# Altium schematic symbol library Schlib1.SchLib: 27 symbols
Pins are listed as number, name and electrical type; pins without a type are passive.

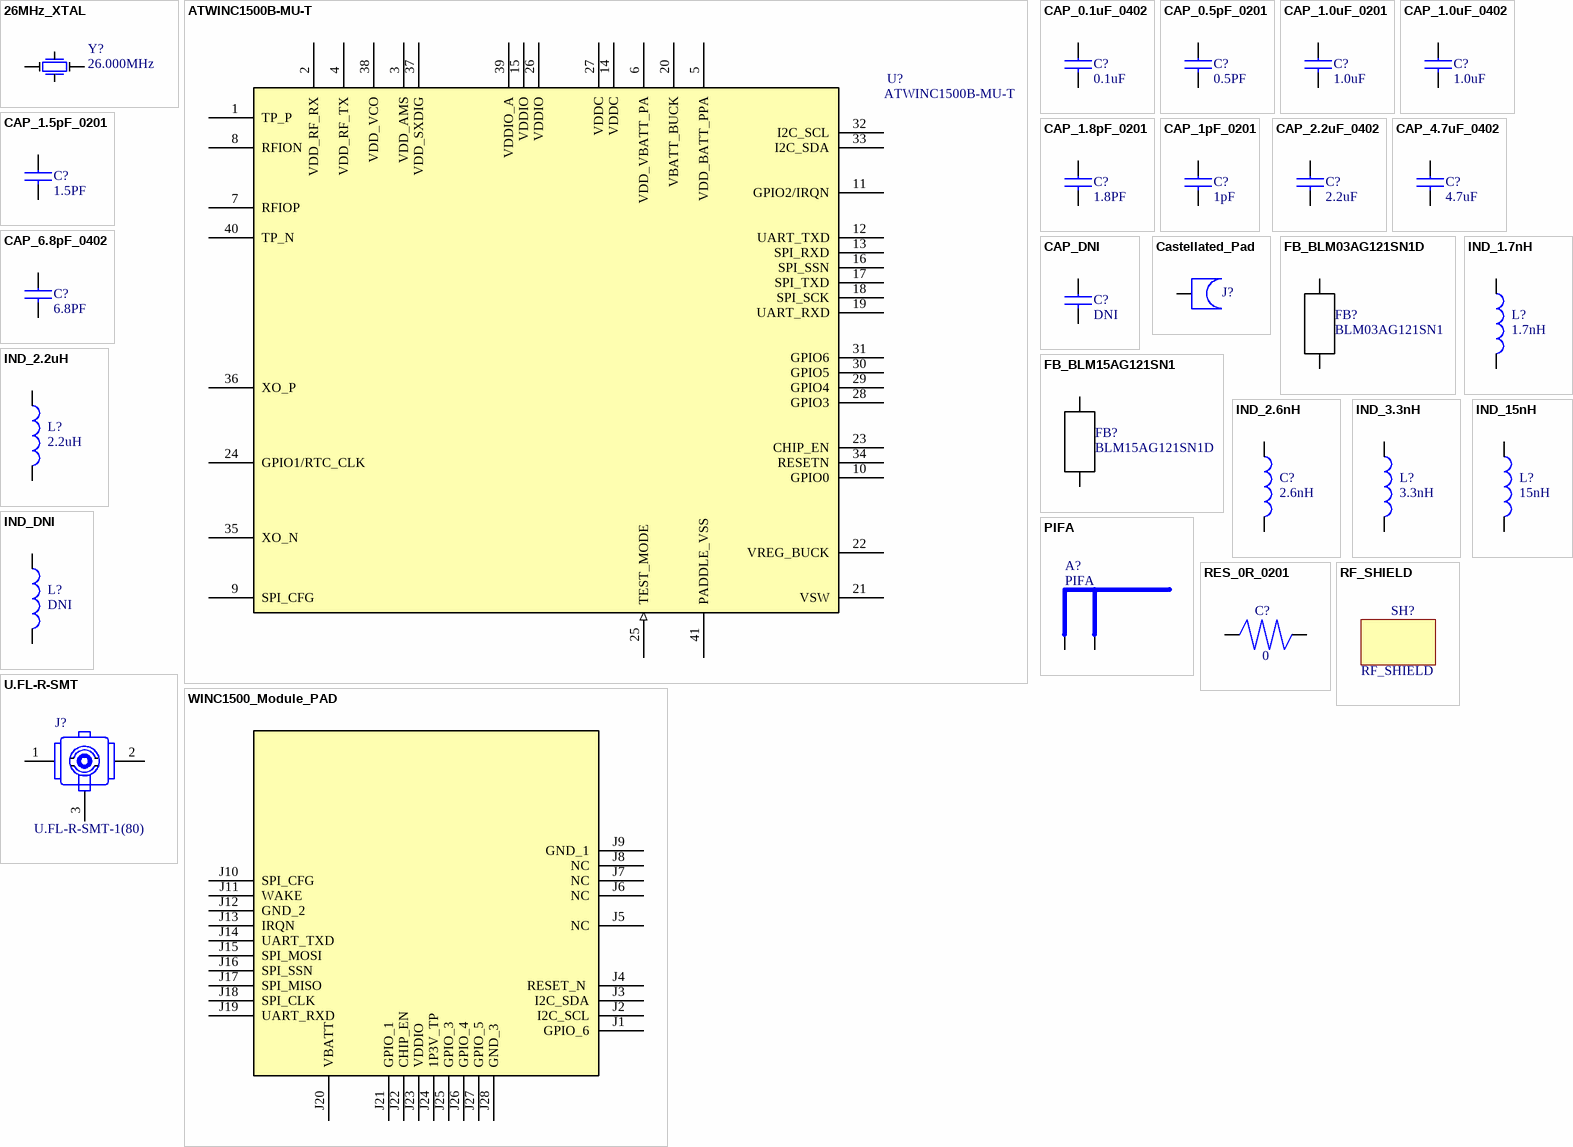
[diagram p0: symbols 26MHz_XTAL to WINC1500_Module_PAD]

## 26MHz_XTAL
designator Y?  value 26.000MHz  (hidden comment: *)
SMT CRYSTAL 26MHz; Manufacturer: Taitien; Part Number: A0183-X-001-3(M)
footprint FCX-05
pins: 1, 2, 3, 4

## ATWINC1500B-MU-T
designator U?  value ATWINC1500B-MU-T
SMT IC WiFi 40QFN; Manufacturer: Microchip Technology; Part Number: ATWINC1500B-MU-T
footprint QFN-40-5X5-P4-HP85
pins: 1 TP_P, 2 VDD_RF_RX (power), 3 VDD_AMS (power), 4 VDD_RF_TX (power), 5 VDD_BATT_PPA (power), 6 VDD_VBATT_PA (power), 7 RFIOP, 8 RFION, 9 SPI_CFG, 10 GPIO0, 11 GPIO2/IRQN, 12 UART_TXD, 13 SPI_RXD, 14 VDDC (power), 15 VDDIO (power), 16 SPI_SSN, 17 SPI_TXD, 18 SPI_SCK, 19 UART_RXD, 20 VBATT_BUCK (power), 21 VSW (power), 22 VREG_BUCK (power), 23 CHIP_EN, 24 GPIO1/RTC_CLK, 25 TEST_MODE (in), 26 VDDIO (power), 27 VDDC (power), 28 GPIO3, 29 GPIO4, 30 GPIO5, 31 GPIO6, 32 I2C_SCL, 33 I2C_SDA, 34 RESETN, 35 XO_N, 36 XO_P, 37 VDD_SXDIG (power), 38 VDD_VCO (power), 39 VDDIO_A (power), 40 TP_N, 41 PADDLE_VSS

## CAP_0.1uF_0402
designator C?  value 0.1uF  (hidden comment: *)
SMT CAP CER 100NF 16V 10% X5R 0402; Manufacturer: Yageo; Part Number: CC0402KRX5R7BB104
footprint 0402_M
pins: 1, 2

## CAP_0.5pF_0201
designator C?  value 0.5PF  (hidden comment: *)
SMT CAP CER 0.5pF 0.1pF NPO 0201 25V; Manufacturer: Murata; Part Number: GRM0335C1ER50BA0
footprint C0201
pins: 1, 2

## CAP_1.0uF_0201
designator C?  value 1.0uF  (hidden comment: *)
SMT CAP 1.0uF 4V 20% X6S 0201; Manufacturer: Murata; Part Number: GRM033C80G105MEA2D
footprint C0201
pins: 1, 2

## CAP_1.0uF_0402
designator C?  value 1.0uF  (hidden comment: *)
SMT CAP CER 1.0uF X5R 6.3V 0402 10%; Manufacturer: Yageo; Part Number: CC0402KRX5R5BB105
footprint 0402_M
pins: 1, 2

## CAP_1.5pF_0201
designator C?  value 1.5PF  (hidden comment: *)
SMT CAP CER 1.8PF 50V NP0 0201; Manufacturer: Murata; Part Number: GRM0335C1H1R5CA01
footprint C0201
pins: 1, 2

## CAP_1.8pF_0201
designator C?  value 1.8PF  (hidden comment: *)
SMT CAP CER 1.8PF 50V NP0 0201; Manufacturer: Murata; Part Number: GRM0335C1H1R8CA01D
footprint C0201
pins: 1, 2

## CAP_1pF_0201
designator C?  value 1pF  (hidden comment: *)
SMT CAP 1pF 50V 0201 ±0.25pF COG; Manufacturer: Murata; Part Number: GRM0335C1H1R0CA01D
footprint C0201
pins: 1, 2

## CAP_2.2uF_0402
designator C?  value 2.2uF  (hidden comment: *)
SMT CAP 2.2uF 6.3V X5R 0402; Manufacturer: Taiyo; Part Number: JMK105BJ225MV
footprint 0402_M
pins: 1, 2

## CAP_4.7uF_0402
designator C?  value 4.7uF  (hidden comment: *)
SMT CAP CER 4.7UF 6.3V X5R 20% 0402; Manufacturer: Murata; Part Number: GRM155R60G475ME47D
footprint 0402_M
pins: 1, 2

## CAP_6.8pF_0402
designator C?  value 6.8PF  (hidden comment: *)
SMT CAP 6.8pF 0.5pF 50V 0402 COG; Manufacturer: Murata; Part Number: GRM1555C1H6R8D
footprint 0402_M
pins: 1, 2

## CAP_DNI
designator C?  value DNI  (hidden comment: *)
CAP_DNI
footprint C0201
pins: 1, 2

## Castellated_Pad
designator J?  (no BOM)
Castellated_Pad
footprint QFN40_5X5_MCH
pins: 1

## FB_BLM03AG121SN1D
designator FB?  value BLM03AG121SN1  (hidden comment: *)
SMT Ferrite 120 OHM 200mA 0201; Manufacturer: Murata; Part Number: BLM03AG121SN1
footprint LQP03T_0201
pins: 1, 2

## FB_BLM15AG121SN1
designator FB?  value BLM15AG121SN1D  (hidden comment: *)
SMT IND 120 OHM 0402; Manufacturer: Murata; Part Number: BLM15AG121SN1D
footprint FB_M
pins: 1, 2

## IND_1.7nH
designator L?  value 1.7nH  (hidden comment: *)
SMT FIXED IND 1.7nH 600MA 150 MOHM; Manufacturer: Murata; Part Number: LQP03TN1N7B02
footprint LQP03T_0201
pins: 1, 2

## IND_2.2uH
designator L?  value 2.2uH  (hidden comment: *)
SMT IND POWER 2.2uH 1250mA 0.22ohms 0603 20%; Manufacturer: Murata; Part Number: LQM18PN2R2MFRL
footprint 0603_M
pins: 1, 2

## IND_2.6nH
designator C?  value 2.6nH  (hidden comment: *)
IND 2.6NH 500MA 0201; Manufacturer: Murata; Part Number: LQP03TN2N6B02
footprint LQP03T_0201
pins: 1, 2

## IND_3.3nH
designator L?  value 3.3nH  (hidden comment: *)
SMT IND 3.3+/-0.1NH 750MA 0201; Manufacturer: Murata; Part Number: LQP03TN3N3B02D
footprint LQP03T_0201
pins: 1, 2

## IND_15nH
designator L?  value 15nH  (hidden comment: *)
SMT IND 15NH 5% 0402; Manufacturer: Murata; Part Number: LQG15HS15NJ02D
footprint 0402_M
pins: 1, 2

## IND_DNI
designator L?  value DNI  (hidden comment: *)
IND_DNI; Manufacturer: *; MPN: *; Note: *
footprint LQP03T_0201
pins: 1, 2

## PIFA
designator A?  value PIFA  (hidden comment: *)
PCB Antenna
footprint PIFA_FOLDED
pins: 1, 2

## RES_0R_0201
designator C?  value 0  (hidden comment: *)
RES 0.0 OHM 1/20W JUMP 0201 SMD; Manufacturer: Panasonic; Part Number: ERJ-1GN0R00C
footprint C0201
footprint RES_0402_AP2-00069_RF (Standard 0402 SMD resistor footprint)
pins: 1, 2

## RF_SHIELD
designator SH?  (value not drawn)  (mechanical)
RF SHIELD (12.70 x 13.66 x 1.3 mm)

## U.FL-R-SMT
designator J?  value U.FL-R-SMT-1(80)
SMT CONN RECPT ULTRA-MINI COAX; Manufacturer: HIROSE; Part Number: U.FL-R-SMT-1(80)
footprint RECT_U_FL-R-SMT
pins: 1 GND (power), 2 GND (power), 3 SIG

## WINC1500_Module_PAD
designator PCB?  (value not drawn)  (no BOM)
Castalled_Pads
footprint module footprint
pins: J1 GPIO_6, J2 I2C_SCL, J3 I2C_SDA, J4 RESET_N , J5 NC, J6 NC, J7 NC, J8 NC, J9 GND_1, J10 SPI_CFG , J11 WAKE, J12 GND_2, J13 IRQN, J14 UART_TXD, J15 SPI_MOSI, J16 SPI_SSN, J17 SPI_MISO, J18 SPI_CLK, J19 UART_RXD, J20 VBATT, J21 GPIO_1, J22 CHIP_EN, J23 VDDIO, J24 1P3V_TP, J25 GPIO_3, J26 GPIO_4, J27 GPIO_5, J28 GND_3